# EAGLE library part CUSTOMLIBS_TPS62173 (library sensortag_motherboard_v004)
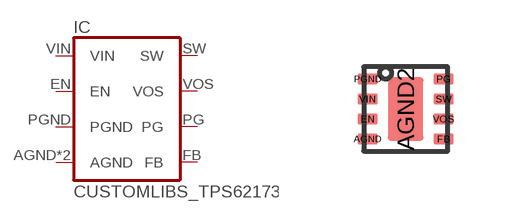
[diagram p6: symbol with the pads of CUSTOMLIBS_WSON8; footprint CUSTOMLIBS_WSON8]

Designator prefix IC

## CUSTOMLIBS_TPS62173  [CUSTOMLIBS_WSON8]
AGND  AGND
AGND2  AGND
EN  EN
FB  FB
PG  PG
PGND  PGND
SW  SW
VIN  VIN
VOS  VOS

## Footprint CUSTOMLIBS_WSON8 (pad centres in mm)
smd 0.5 x 0.25: AGND -0.95,-0.75; EN -0.95,-0.25; FB 0.95,-0.75; PG 0.95,0.75; PGND -0.95,0.75; SW 0.95,0.25; VIN -0.95,0.25; VOS 0.95,-0.25
smd 0.9 x 1.6: AGND2 0,0